# Altium schematic symbol library EwgOpto.SchLib: 26 symbols
Pins are listed as number, name and electrical type; pins without a type are passive.

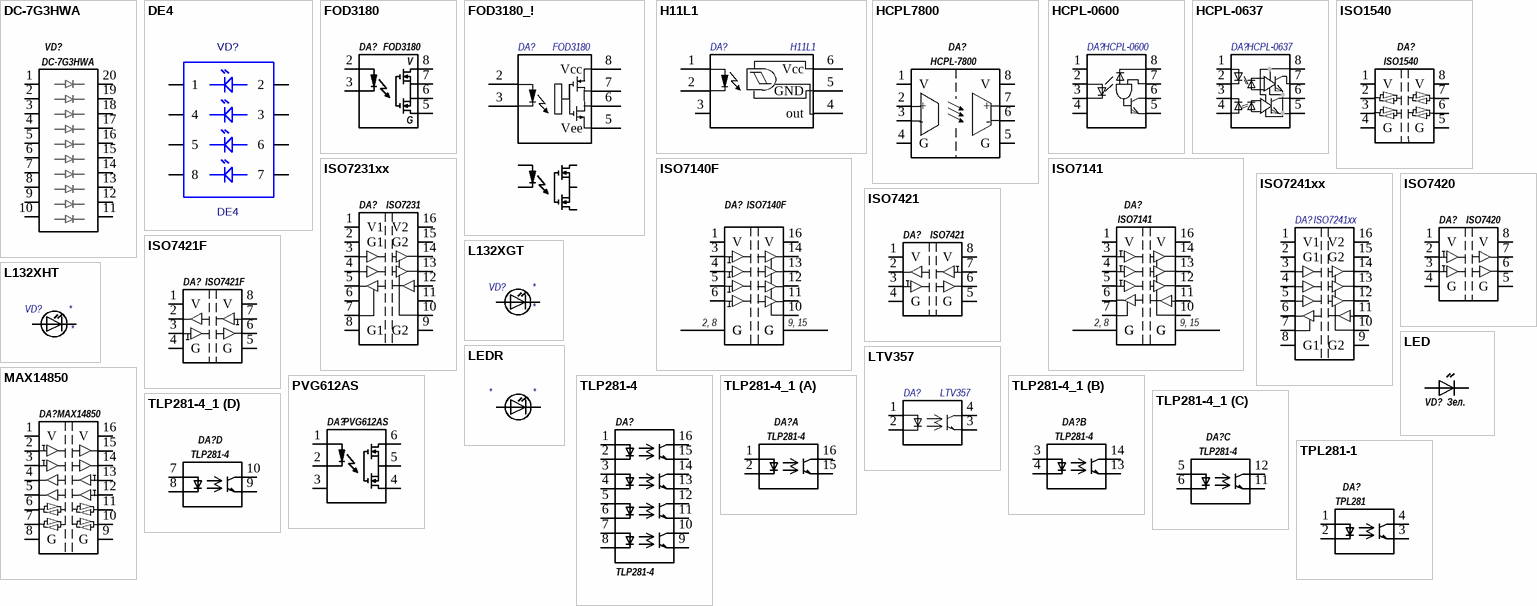
[diagram p0: symbols DC-7G3HWA to TPL281-1]

## DC-7G3HWA
designator VD?
Шкала светодиодная; Производитель: Kingbright; Тип монтажа: Штыревой; Характеристики: 10 LEDs; Наименование: DC-7G3HWA; Тип компонента: Шкала светодиодная
footprint DC-7G3HWA
pins: 1, 2, 3, 4, 5, 6, 7, 8, 9, 10, 11, 12, 13, 14, 15, 16, 17, 18, 19, 20

## DE4
designator VD?
Value: *
footprint DE4
footprint DE4 - GREEN
footprint DE4 - YELLOW
pins: 1, 2, 3, 4, 5, 6, 7, 8

## FOD3180
designator DA?
Оптореле; Производитель: Fairchild; Тип корпуса: 8pin SMT; Тип монтажа: Поверхностный; Характеристики: 10...20В 2А 200нс; Наименование: FOD3180; Тип компонента: Оптореле
footprint 8-pin-SMT
pins: 2 Anode, 3 Cathode, 5 Vee, 6 OUTPUT, 7 OUTPUT, 8 Vcc
text: V; G

## FOD3180_!
designator DA?, comment FOD3180
Оптореле 2А 10-20В; Наименование: FAIRCHILD, FOD3180SD; Примечание: 2A Output Current, High Speed MOSFET Gate Driver Optocoupler; Тип корпуса: 8pin SMT; Тип монтажа: Поверхностный; Value: FOD3180; Тип компонента: Оптореле 2А 10-20В
footprint 8-pin-SMT
pins: 2, 3, 5 Vee, 6 OUT, 7 OUT, 8 Vcc

## H11L1
designator DA?
Оптрон логических сигналов; Наименование: FAIRCHILD, H11L1SR2M; Примечание: OPTOISOLATORS LOGIC OUTPUT; Тип корпуса: 6pin SMT; Тип монтажа: Поверхностный; Value: H11L1; Тип компонента: Оптрон логических сигналов
footprint 6-pin-SMT
pins: 1, 2, 3, 4 out, 5 GND, 6 Vcc

## HCPL7800
designator DA?, comment HCPL-7800
Аналоговый изолятор 1 кан.; Value: HCPL7800; Наименование: Avago Technologies, HCPL-7800; Примечание: Isolation amplifier; Тип корпуса: 8pin SMT; Тип монтажа: Поверхностный; Тип компонента: Аналоговый изолятор 1 кан.
footprint 8-pin-SMT
pins: 1 V, 2 +, 3 -, 4 G, 5 G, 6 -, 7 +, 8 V

## HCPL-0600
designator DA?
Оптопара; Наименование: Fairchild Semiconductor, HCPL-0600; Тип корпуса: SO8; Тип монтажа: Поверхностный; Value: *; Тип компонента: Оптопара
footprint SO8 - HCPL
pins: 1, 2, 3, 4, 5, 6, 7, 8

## HCPL-0637
designator DA?
Оптопара; Наименование: Fairchild Semiconductor, HCPL-0637; Тип корпуса: SO8; Тип монтажа: Поверхностный; Value: *; Тип компонента: Оптопара
footprint SO8 - HCPL
pins: 1, 2, 3, 4, 5, 6, 7, 8

## ISO1540
designator DA?
Цифровой изолятор 2 вх/вых; Производитель: Texas Instruments; Тип корпуса: SO8; Тип монтажа: Поверхностный; Характеристики: 1 Мбит/с; Наименование: ISO1540; Тип компонента: Цифровой изолятор 2 вх/вых
footprint SO8
pins: 1 V (power), 2 NC, 3 EN1, 4 G, 5 G, 6 E2, 7  , 8 V (power)

## ISO7140F
designator DA?
Цифровой изолятор 4 вых; Производитель: Texas Instruments; Тип корпуса: SSOP16; Тип монтажа: Поверхностный; Наименование: ISO7140F; Тип компонента: Цифровой изолятор 4 вых
footprint TSSOP16
pins: 1 V (power), 2 G (power), 3 INA, 4 INB, 5 INC, 6 IND, 8 G, 9 G, 10 EN, 11 OUTD, 12 OUTC, 13 OUTB, 14 OUTA, 15 G (power), 16 V (power)
text: 2, 8; 9, 15

## ISO7141
designator DA?
Цифровой изолятор 3 вх 1 вых; Производитель: Texas Instruments; Тип корпуса: SSOP16; Тип монтажа: Поверхностный; Наименование: ISO7141; Тип компонента: Цифровой изолятор 3 вх 1 вых
footprint TSSOP16
pins: 1 V (power), 2 G (power), 3 INA, 4 INB, 5 INC, 6 OUTD, 7 EN1, 8 G, 9 G, 10 EN2, 11 IND, 12 OUTC, 13 OUTB, 14 OUTA, 15 G (power), 16 V (power)
text: 2, 8; 9, 15

## ISO7231xx
designator DA?, comment ISO7231
Цифровой изолятор 2 вх 1 вых; Производитель: Texas Instruments; Тип корпуса: SO16; Тип монтажа: Поверхностный; Наименование: ISO7231; Тип компонента: Цифровой изолятор 2 вх 1 вых
footprint SO16 - 300
pins: 1 V1 (power), 2 G1 (power), 3 INA, 4 INB, 5 OUTC, 6 NC, 7 EN1, 8 G1, 9 G2, 10 E2, 11  , 12  , 13  , 14, 15 G2 (power), 16 V2 (power)

## ISO7241xx
designator DA?
Цифровой изолятор 3 вх 1 вых; Наименование: Texas Instruments, ISO7241xx; Тип корпуса: SO8; Тип монтажа: Поверхностный; Тип компонента: Цифровой изолятор 3 вх 1 вых
footprint SO16 - 300
pins: 1 V1, 2 G1, 3, 4  , 5  , 6  , 7 E1, 8 G1, 9 G2, 10 E2, 11  , 12  , 13  , 14, 15 G2, 16 V2

## ISO7420
designator DA?
Цифровой изолятор 2 вх; Производитель: Texas Instruments; Тип корпуса: SO8; Тип монтажа: Поверхностный; Наименование: ISO7420; Тип компонента: Цифровой изолятор 2 вх
footprint SO8
pins: 1 V, 2, 3, 4 G, 5 G, 6, 7, 8 V

## ISO7421
designator DA?
Цифровой изолятор 1 вх 1 вых; Производитель: Texas Instruments; Тип корпуса: SO8; Тип монтажа: Поверхностный; Наименование: ISO7421; Тип компонента: Цифровой изолятор 1 вх 1 вых
footprint SO8
pins: 1 V, 2, 3, 4 G, 5 G, 6, 7, 8 V

## ISO7421F
designator DA?
Цифровой изолятор 1 вх 1 вых; Производитель: Texas Instruments; Тип корпуса: SO8; Тип монтажа: Поверхностный; Наименование: ISO7421F; Тип компонента: Цифровой изолятор 1 вх 1 вых
footprint SO8
pins: 1 V, 2, 3, 4 G, 5 G, 6, 7, 8 V

## L132XGT
designator VD?
Светодиод; Наименование: Kingbright, L132XGT; Примечание: Зеленый; Тип монтажа: Штыревой; Тип компонента: Светодиод; Value: *
footprint L132XGT
pins: 1, 2

## L132XHT
designator VD?
Светодиод; Наименование: Kingbright, L132XHT; Примечание: Красный; Тип монтажа: Штыревой; Тип компонента: Светодиод; Value: *
footprint L132XHT
pins: 1, 2

## LED
designator VD?  value Зел.  (hidden comment: LED)
Светодиод; Тип монтажа: Поверхностный; Наименование: LED; Номинал: Зел.; Тип компонента: Светодиод
footprint LED0603
footprint LED0402
pins: 1, 2

## LEDR
designator *
Тип монтажа: Штыревой; Value: *
footprint L132XHT
pins: 1, 2

## LTV357
designator DA?
Микросхема - Оптопара; Наименование: LITE ON, LTV357T; Тип корпуса: SO-4w; Тип монтажа: Поверхностный; Value: LTV357; Тип компонента: Микросхема - Оптопара
footprint LTV357 (SO4)
pins: 1, 2, 3, 4

## MAX14850
designator DA?
Цифровой изолятор 2 вх 2 вых 2 вх/вых; Производитель: Maxim; Тип корпуса: QSOP16; Тип монтажа: Поверхностный; Характеристики: 2 Мбит/с; Наименование: MAX14850; Тип компонента: Цифровой изолятор 2 вх 2 вых 2 вх/вых
footprint SO16
pins: 1 V (power), 2 (power), 3 INA, 4 INB, 5 OUTC, 6 NC, 7 EN1, 8 G, 9 G, 10 E2, 11  , 12  , 13  , 14, 15 (power), 16 V (power)

## PVG612AS
designator DA?
Оптореле; Производитель: International Rectifier; Тип корпуса: 6pin SMT; Тип монтажа: Поверхностный; Характеристики: 60В 3А; Наименование: PVG612AS; Тип компонента: Оптореле
footprint 6-pin-SMT
pins: 1, 2, 3, 4, 5, 6

## TLP281-4
designator DA?
Оптопара 4 канала; Производитель: Toshiba; Тип корпуса: SO16; Тип монтажа: Поверхностный; Характеристики: 80В 50мА; Наименование: TLP281-4; Тип компонента: Оптопара 4 канала
footprint SO16-180
pins: 1, 2, 3, 4, 5, 6, 7, 8, 9, 10, 11, 12, 13, 14, 15, 16

## TLP281-4_1
designator DA?, comment TLP281-4
Оптопара 4 канала; Производитель: Toshiba; Тип корпуса: SO16; Тип монтажа: Поверхностный; Характеристики: 80В 50мА; Наименование: TLP281-4; Тип компонента: Оптопара 4 канала
footprint SO16-180
part A pins: 1, 2, 15, 16
part B pins: 3, 4, 13, 14
part C pins: 5, 6, 11, 12
part D pins: 7, 8, 9, 10

## TPL281-1
designator DA?, comment TPL281
Оптопара; Производитель: Toshiba; Тип корпуса: SOIC-4; Тип монтажа: Поверхностный; Характеристики: 80В 50мА; Наименование: TPL281; Тип компонента: Оптопара
footprint SOIC-4
pins: 1, 2, 3, 4